# Altium footprint library PCB - LEADED - SOIC - SOIC-18.PcbLib: 1 footprints
Each footprint in its own frame and in the unit in brackets; x right, y up, seen from the top. Pads: shape width x height; smd on the part's side, far side on the other; paste and mask are expansions set on the pad; w line width, h text height; cw(c..) or ccw(c..) is an arc to the next point about the centre after c.
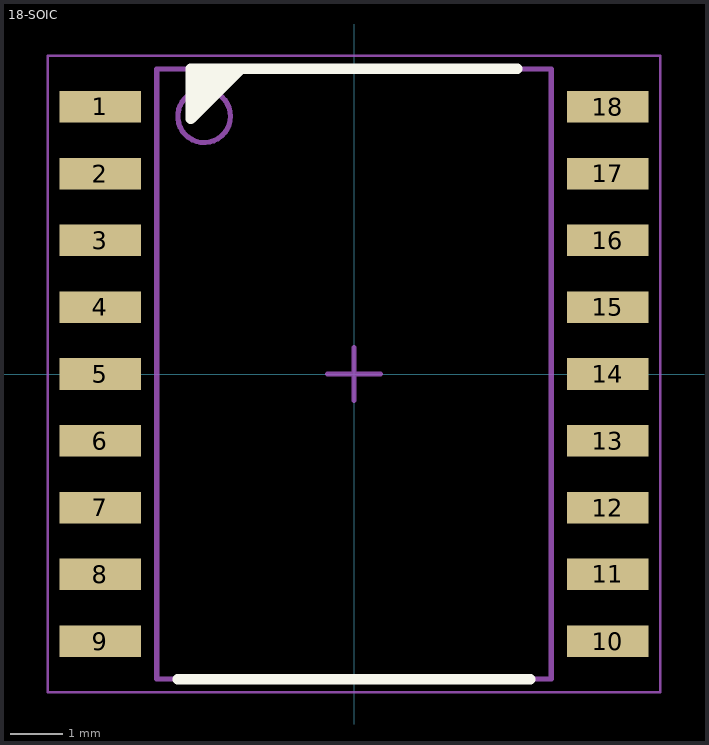
[diagram p0: the footprint, top view; thin cyan lines are the x and y axes]

## 18-SOIC [mm] "SOIC, 18-Leads, Body 11.55x7.50mm, Pitch 1.27mm, IPC Medium Density"
height 2.65
pads (18):
  rect 1.55x0.6 smd: 1(-4.825,5.08) 2(-4.825,3.81) 3(-4.825,2.54) 4(-4.825,1.27) 5(-4.825,0) 6(-4.825,-1.27) 7(-4.825,-2.54) 8(-4.825,-3.81) 9(-4.825,-5.08) 10(4.825,-5.08) 11(4.825,-3.81) 12(4.825,-2.54) 13(4.825,-1.27) 14(4.825,0) 15(4.825,1.27) 16(4.825,2.54) 17(4.825,3.81) 18(4.825,5.08)
Top Overlay:
  region: -3.1,5.8 -3.1,4.85 -2.175,5.775
  lines w0.2: -3.35,-5.8 3.35,-5.8 ; -2.175,5.775 -3.1,4.85 -3.1,5.8 3.1,5.8
Mechanical 13:
  circle w0.1: c-2.85,4.9 r0.5
  lines w0.1: -3.75,-5.8 3.75,-5.8 3.75,5.8 -3.75,5.8 -3.75,-5.8
Mechanical 15:
  lines w0.05: -5.825,-6.05 5.825,-6.05 5.825,6.05 -5.825,6.05 -5.825,-6.05
  lines w0.1: -0.5,0 0.5,0 ; 0,-0.5 0,0.5
3D body "SOIC127P1030X265-18N.step": height 2.65, standoff 0, extent -5.15,-5.8 5.15,5.8